# Altium schematic symbol library Schlib1.SchLib: 3 symbols
Pins are listed as number, name and electrical type; pins without a type are passive.

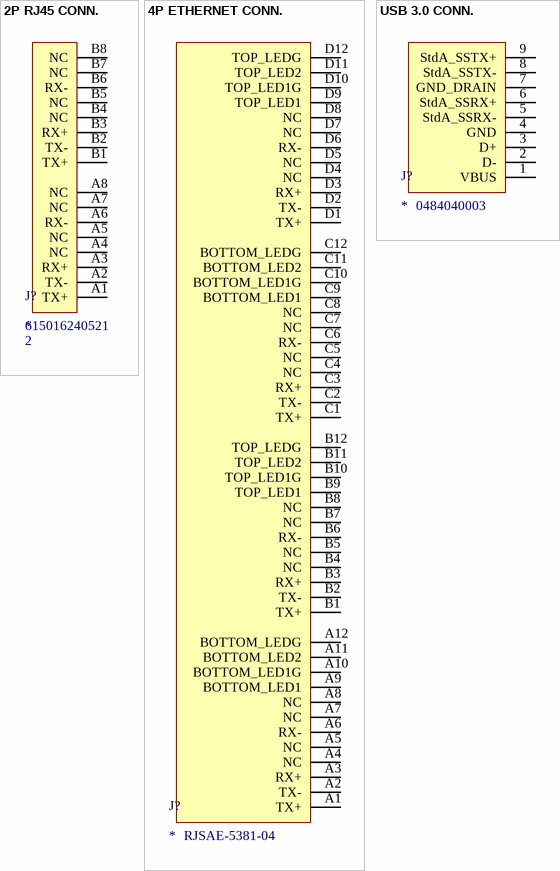
[diagram p0: symbols 2P RJ45 CONN. to USB 3.0 CONN.]

## 2P RJ45 CONN.
designator J?  Order Number: 615016240521  Port Number: 2
Manufacturer: Würth Elec.; Mounting Type: Through Hole; Price: $9.52
footprint 2P RJ45 CONN.
pins: A1 TX+, A2 TX-, A3 RX+, A4 NC, A5 NC, A6 RX-, A7 NC, A8 NC, B1 TX+, B2 TX-, B3 RX+, B4 NC, B5 NC, B6 RX-, B7 NC, B8 NC

## 4P ETHERNET CONN.
designator J?  Order Number: RJSAE-5381-04
Manufacturer: Amphenol ICC; Port Number: 4; Mounting Type: Through Hole; Price: $11.42
footprint 4P Ethernet CONN.
pins: A1 TX+, A2 TX-, A3 RX+, A4 NC, A5 NC, A6 RX-, A7 NC, A8 NC, A9 BOTTOM_LED1, A10 BOTTOM_LED1G, A11 BOTTOM_LED2, A12 BOTTOM_LEDG, B1 TX+, B2 TX-, B3 RX+, B4 NC, B5 NC, B6 RX-, B7 NC, B8 NC, B9 TOP_LED1, B10 TOP_LED1G, B11 TOP_LED2, B12 TOP_LEDG, C1 TX+, C2 TX-, C3 RX+, C4 NC, C5 NC, C6 RX-, C7 NC, C8 NC, C9 BOTTOM_LED1, C10 BOTTOM_LED1G, C11 BOTTOM_LED2, C12 BOTTOM_LEDG, D1 TX+, D2 TX-, D3 RX+, D4 NC, D5 NC, D6 RX-, D7 NC, D8 NC, D9 TOP_LED1, D10 TOP_LED1G, D11 TOP_LED2, D12 TOP_LEDG

## USB 3.0 CONN.
designator J?  Order Number: 0484040003
USB 3.0 Connector; Manufacturer: Molex; Port Number: 1; Mounting Type: Through Hole; Price: $2.72
footprint USB 3.0 CONN.
pins: 1 VBUS, 2 D-, 3 D+, 4 GND, 5 StdA_SSRX-, 6 StdA_SSRX+, 7 GND_DRAIN, 8 StdA_SSTX-, 9 StdA_SSTX+